# EAGLE library part SDMMC (library rezzonics)
SD MMC Card holder 4UCON part #06132 - easy to solder
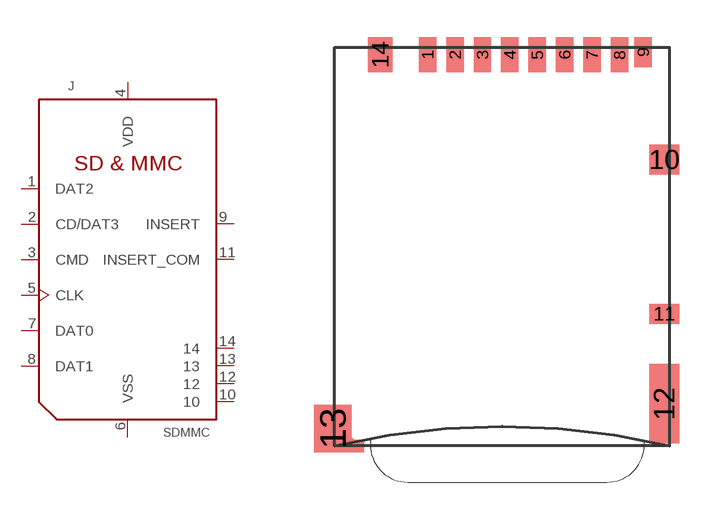
[diagram p11: symbol with the pads of MICROSD_RBT; footprint MICROSD_RBT]

Designator prefix J

## SDMMCRBT  [MICROSD_RBT]
1  DAT2
2  CD/DAT3
3  CMD  in
4  VDD  pwr
5  CLK  in
6  VSS  pwr
7  DAT0
8  DAT1
9  INSERT  pas
10  10  nc
11  INSERT_COM  pas
12  12  nc
13  13  nc
14  14  nc

## Footprint MICROSD_RBT (pad centres in mm)
smd 0.7 x 1.4: 1 0,0.7; 2 1.1,0.7; 3 2.2,0.7; 4 3.3,0.7; 5 4.4,0.7; 6 5.5,0.7; 7 6.6,0.7; 8 7.7,0.7
smd 0.7 x 1.2: 9 8.65,0.8
smd 1.2 x 1.2: 10 9.5,-3.5
smd 1.2 x 0.8: 11 9.5,-9.7
smd 1.2 x 3.2: 12 9.5,-13.3
smd 1.5 x 1.9: 13 -3.8,-14.3
smd 1 x 1.4: 14 -1.9,0.7